# Altium footprint library probe.PcbLib: 2 footprints
Each footprint in its own frame and in the unit in brackets; x right, y up, seen from the top. Pads: shape width x height; smd on the part's side, far side on the other; paste and mask are expansions set on the pad; w line width, h text height; cw(c..) or ccw(c..) is an arc to the next point about the centre after c.
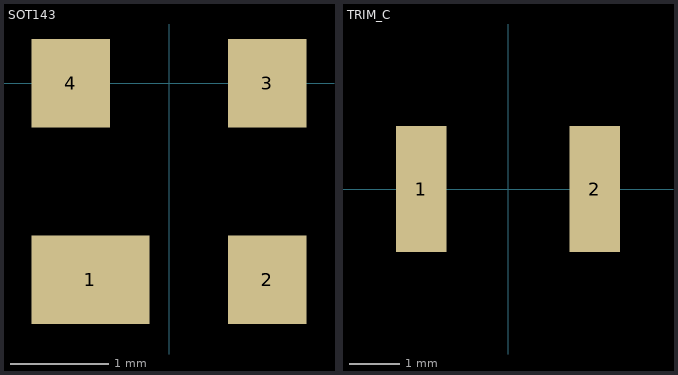
[diagram p0: the footprints below, top view; thin cyan lines are the x and y axes]

## SOT143 [mm]
pads (4):
  rect 1.2x0.9 smd: 1(-0.8,-2)
  rect 0.8x0.9 smd: 2(1,-2) 3(1,0) 4(-1,0)

## TRIM_C [mm]
pads (2):
  rect 1x2.5 smd: 1(-1.715,0) 2(1.715,0)